# Altium footprint library JST-B2B-XH-A.PcbLib: 1 footprints
Each footprint in its own frame and in the unit in brackets; x right, y up, seen from the top. Pads: shape width x height; smd on the part's side, far side on the other; paste and mask are expansions set on the pad; w line width, h text height; cw(c..) or ccw(c..) is an arc to the next point about the centre after c.
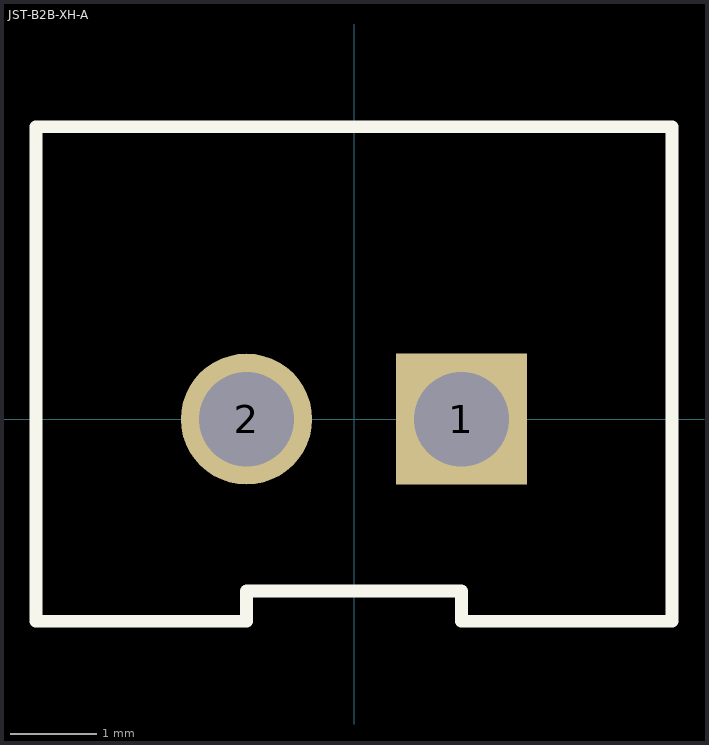
[diagram p0: the footprint, top view; thin cyan lines are the x and y axes]

## JST-B2B-XH-A [mil] "JST 2 pin 2.5mm Header"
pads (2):
  rect 60x60 hole 43.31: 1(49.21,0)
  round 60 hole 43.31: 2(-49.21,0)
Top Overlay:
  lines w5.91: -145.67,-92.52 -145.67,133.86 145.67,133.86 145.67,-92.52 49.21,-92.52 49.21,-78.74 -49.21,-78.74 -49.21,-92.52 -145.67,-92.52
3D body "JST-B2B-XH-A.step": height 275.59, standoff -133.86, extent -147.64,-93.7 147.64,138.58